# Altium schematic symbol library BM04B-SRSS-TB_LF__SN.SCHLIB: 1 symbol
Pins are listed as number, name and electrical type; pins without a type are passive.

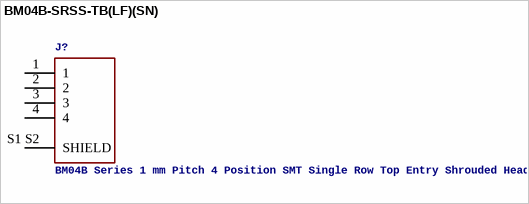
[diagram p0: symbol BM04B-SRSS-TB(LF)(SN)]

## BM04B-SRSS-TB(LF)(SN)
designator J?, comment BM04B Series 1 mm Pitch 4 Position SMT Single Row Top Entry Shrouded Header
GateName_1: G$1; SymbolName_1: BM04B-SRSS-TB(LF)(SN); MF: JST Sales; Description: Connector Header Surface Mount 4 position 0.039 (1.00mm); LibraryName: BM04B-SRSS-TB_LF__SN; DeviceSetName: BM04B-SRSS-TB(LF)(SN); Package: None; MP: BM04B-SRSS-TB(LF)(SN); DigiKey-Purchase-URL: https://snapeda.com/shop?store=DigiKey&id=91778; Digi-Key_Part_Number: 455-1790-1-ND
footprint CONN_BM04B-SRSS-TB(LF)(SN)
pins: 1, 2, 3, 4, S1 S2 SHIELD